# EAGLE library part WE-D-SUB_THT90_EC_216612013 (library WE-D-SUB)
WE-D-SUB Filter Bent 90° THT Characteristics Standard type filtered with 1000 pF High attenuation: max. ≥ 40 dB @ 180 MHz Choice of earthing metal sheet or high speed earthing clip Rated voltage: 100 VDC Rated current @ 20 ºC: 5 A Withstand voltage: 250 VRMS Insulation resistance: min. 1000 MΩ Operating temperature: –55 ºC to +125 ºC Applications Filtering of interfaces External connection to -printer -sensor -display Device and Package Name Note: MS means Size Metal Sheet EC means Size Earthing Clip <https://katalog.we-online.com/media/images/v2/o14704v209%20Family_d-sub_filter_90_abgewinkelt.jpg> Details see: https://katalog.we-online.com/en/pbs/D-SUB-FILTER-BENT90 Updated by Ella Wu 2019-09-11 2019(C) Wurth Elektronik
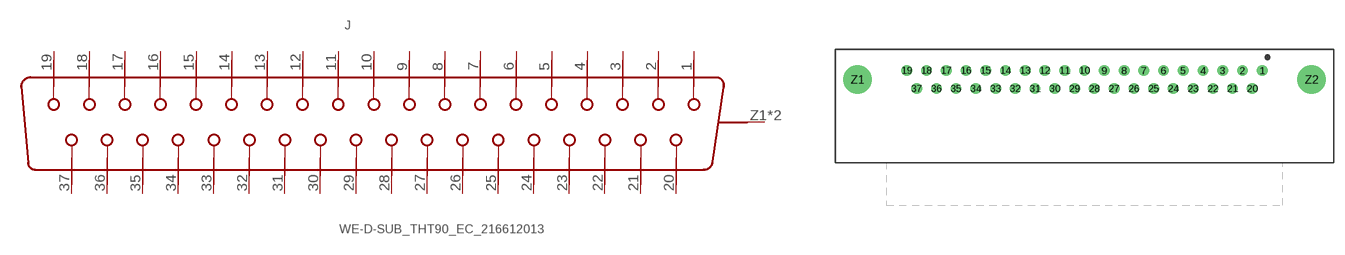
[diagram p29: symbol with the pads of WE-D-SUB_THT90_EC_216612013; footprint WE-D-SUB_THT90_EC_216612013]

Designator prefix J

## WE-D-SUB_THT90_EC_216612013 (DATASHEET-URL: https://katalog.we-online.de/pbs/datasheet/216612013.pdf; MOUNT: THT; PART-NUMBER: 216612013; POLES: 37; TYPE: Female)  [WE-D-SUB_THT90_EC_216612013]
1  19  pas
2  18  pas
3  17  pas
4  16  pas
5  15  pas
6  14  pas
7  13  pas
8  12  pas
9  11  pas
10  10  pas
11  9  pas
12  8  pas
13  7  pas
14  6  pas
15  5  pas
16  4  pas
17  3  pas
18  2  pas
19  1  pas
20  37  pas
21  36  pas
22  35  pas
23  34  pas
24  33  pas
25  32  pas
26  31  pas
27  30  pas
28  29  pas
29  28  pas
30  27  pas
31  26  pas
32  25  pas
33  24  pas
34  23  pas
35  22  pas
36  21  pas
37  20  pas
Z1  GND  pwr
Z2  GND  pwr

## Footprint WE-D-SUB_THT90_EC_216612013 (pad centres in mm)
WE-D-SUB Filter Bent 90° THT 37 Poles , Female MS means Size Metal Sheet EC means Size Earthing Clip
drill 1: 1 24.84,1.27; 2 22.1,1.27; 3 19.33,1.27; 4 16.56,1.27; 5 13.82,1.27; 6 11.05,1.27; 7 8.28,1.27; 8 5.54,1.27; 9 2.77,1.27; 10 0,1.27; 11 -2.77,1.27; 12 -5.54,1.27; 13 -8.28,1.27; 14 -11.05,1.27; 15 -13.82,1.27; 16 -16.56,1.27; 17 -19.33,1.27; 18 -22.1,1.27; 19 -24.84,1.27; 20 23.47,-1.27; 21 20.7,-1.27; 22 17.96,-1.27; 23 15.19,-1.27; 24 12.42,-1.27; 25 9.68,-1.27; 26 6.91,-1.27; 27 4.14,-1.27; 28 1.38,-1.27; 29 -1.38,-1.27; 30 -4.14,-1.27; 31 -6.91,-1.27; 32 -9.68,-1.27; 33 -12.42,-1.27; 34 -15.19,-1.27; 35 -17.96,-1.27; 36 -20.7,-1.27; 37 -23.47,-1.27
drill 3: Z1 -31.75,0; Z2 31.75,0